# Altium schematic symbol library ELF18N016.Schlib: 1 symbol
Pins are listed as number, name and electrical type; pins without a type are passive.

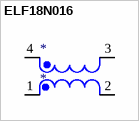
[diagram p0: symbol ELF18N016]

## ELF18N016
designator *
pins: 1, 2, 3, 4